# EAGLE library part LTC6992 (library ICs)
Voltage-Controlled Pulse Width Modulator (PWM)
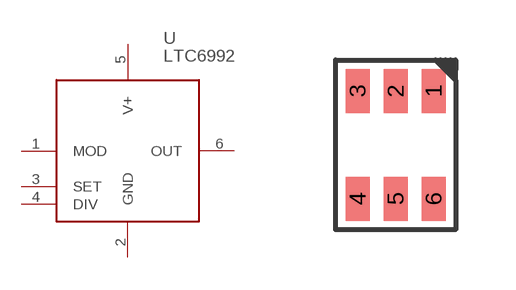
[diagram p13: symbol with the pads of SOT23-6; footprint SOT23-6]

Designator prefix U

## LTC6992CS6-3#TRMPBF (FARNELL: 1848047; VALUE: LTC6992)  [SOT23-6]
1  MOD
2  GND
3  SET
4  DIV
5  V+
6  OUT

## Footprint SOT23-6 (pad centres in mm)
smd 0.6 x 1.1: 1 0.95,1.35; 2 0,1.35; 3 -0.95,1.35; 4 -0.95,-1.35; 5 0,-1.35; 6 0.95,-1.35